# Altium footprint library DHNF04FTVTR.PcbLib: 1 footprints
Each footprint in its own frame and in the unit in brackets; x right, y up, seen from the top. Pads: shape width x height; smd on the part's side, far side on the other; paste and mask are expansions set on the pad; w line width, h text height; cw(c..) or ccw(c..) is an arc to the next point about the centre after c.
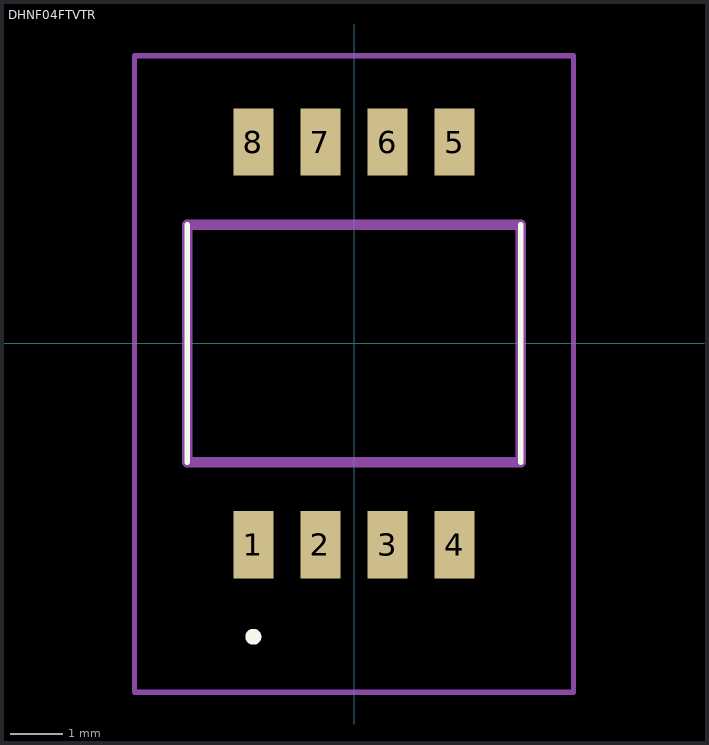
[diagram p0: the footprint, top view; thin cyan lines are the x and y axes]

## DHNF04FTVTR [mm]
pads (8):
  rect 0.76x1.27 smd: 1(-1.905,-3.81) 2(-0.635,-3.81) 3(0.635,-3.81) 4(1.905,-3.81) 5(1.905,3.81) 6(0.635,3.81) 7(-0.635,3.81) 8(-1.905,3.81)
Top Overlay:
  lines w0.1: -3.155,-2.25 -3.155,2.25 ; 3.155,-2.25 3.155,2.25
  lines w0.2: -1.905,-5.6 cw(c-1.905,-5.55) -1.905,-5.5 ; -1.905,-5.6 -1.905,-5.6 ; -1.905,-5.6 ccw(c-1.905,-5.55) -1.905,-5.5 ; -1.905,-5.5 -1.905,-5.5
Mechanical 15:
  lines w0.2: -3.155,-2.25 3.155,-2.25 3.155,2.25 -3.155,2.25 -3.155,-2.25
Mechanical 20:
  lines w0.1: -4.155,-6.6 4.155,-6.6 4.155,5.445 -4.155,5.445 -4.155,-6.6